# Altium schematic symbol library res_smd_passive.SchLib: 12 symbols
Pins are listed as number, name and electrical type; pins without a type are passive.

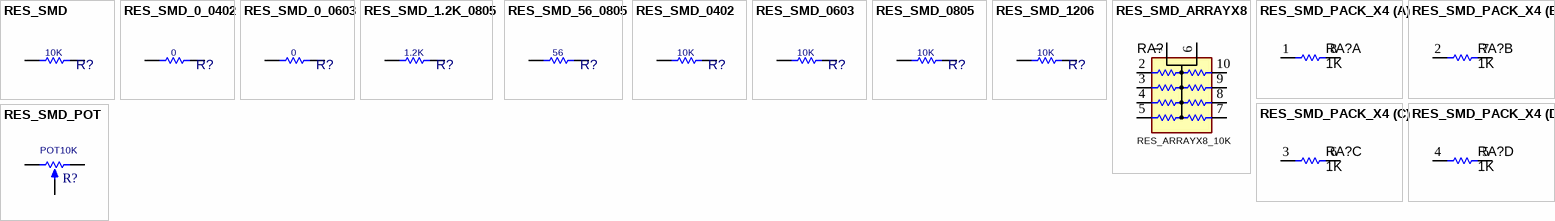
[diagram p0: symbols RES_SMD to RES_SMD_POT]

## RES_SMD
designator R?, comment 10K
RESISTOR, SMD; PARAM: 0.063W; DESC: DESCRIPTION; DIST#: MOUSER; PARAM2: 1%; MANF_P#: -; MANF: -; ASSEMBLY: ASSEMBLY; PRICE: 100= 0.5$; VALUE: 10K
footprint R0402 (CHIP Resistor 1/16 WATT, 1.0X0.5mm, 0402, 1005)
footprint R0603 (CHIP Resistor 1/10 WATT, 1.6x0.8mm, 0603, 1608)
footprint R0805 (CHIP RESISTOR 1/8 WATT ,2.0X1.3mm, 0805, 2012)
footprint R1206 (CHIP RESISTOR 1/4 WATT, Body 3.2x1.6mm,1206, 3216)
footprint R2512 (CHIP RESISTOR 1 WATT, 6.4X3.2mm, 2512, 6432)
footprint R2010 (CHIP RESISTOR 3/4 WATT, 5.1x3mm, 2010, 5025)
footprint R1210 (CHIP RESISTOR 1/2 WATT, Body 3.2x2.5mm,1210, 3225)
pins: 1, 2

## RES_SMD_0_0402
designator R?, comment 0
RESISTOR, SMD; MANF_P#: RK73Z1ETTP; MANF: KOA SPEER; PARAM: 0.063W; DESC: DESCRIPTION; DIST#: MOUSER; PARAM2: 1%; ASSEMBLY: ASSEMBLY; PRICE: 100= 0.8$; VALUE: 0
footprint R0402 (CHIP Resistor 1/16 WATT, 1.0X0.5mm, 0402, 1005)
pins: 1, 2

## RES_SMD_0_0603
designator R?, comment 0
RESISTOR, SMD; MANF_P#: RC0603JR-070RL; MANF: Yageo; PARAM: 0.1W; DESC: DESCRIPTION; DIST#: MOUSER; PARAM2: 1%; ASSEMBLY: ASSEMBLY; PRICE: 100= 0.2$; VALUE: 0
footprint R0603 (CHIP Resistor 1/10 WATT, 1.6x0.8mm, 0603, 1608)
pins: 1, 2

## RES_SMD_1.2K_0805
designator R?, comment 1.2K
RESISTOR, SMD; MANF_P#: ESR10EZPJ122; MANF: ROHM; PARAM: 0.4W; DESC: DESCRIPTION; DIST#: MOUSER; PARAM2: 1%; ASSEMBLY: ASSEMBLY; PRICE: 0.1$; VALUE: 1.2K
footprint R0805 (CHIP RESISTOR 1/8 WATT ,2.0X1.3mm, 0805, 2012)
pins: 1, 2

## RES_SMD_56_0805
designator R?, comment 56
RESISTOR, SMD; MANF_P#: ESR10EZPF56R0; MANF: ROHM; PARAM: 0.4W; DESC: DESCRIPTION; DIST#: MOUSER; PARAM2: 1%; ASSEMBLY: ASSEMBLY; PRICE: 0.02$; VALUE: 56
footprint R0805 (CHIP RESISTOR 1/8 WATT ,2.0X1.3mm, 0805, 2012)
pins: 1, 2

## RES_SMD_0402
designator R?, comment 10K
RESISTOR, SMD; PARAM: 0.063W; DESC: DESCRIPTION; DIST#: MOUSER; PARAM2: 1%; MANF_P#: -; MANF: -; ASSEMBLY: ASSEMBLY; PRICE: 100= 0.5$; VALUE: 10K
footprint R0402 (CHIP Resistor 1/16 WATT, 1.0X0.5mm, 0402, 1005)
pins: 1, 2

## RES_SMD_0603
designator R?, comment 10K
RESISTOR, SMD; PARAM: 0.1W; DESC: DESCRIPTION; DIST#: MOUSER; PARAM2: 1%; MANF_P#: -; MANF: -; ASSEMBLY: ASSEMBLY; PRICE: 100= 0.5$; VALUE: 10K
footprint R0603 (CHIP Resistor 1/10 WATT, 1.6x0.8mm, 0603, 1608)
pins: 1, 2

## RES_SMD_0805
designator R?, comment 10K
RESISTOR, SMD; PARAM: 0.125W; DESC: DESCRIPTION; DIST#: MOUSER; PARAM2: 1%; MANF_P#: -; MANF: -; ASSEMBLY: ASSEMBLY; PRICE: 100= 0.5$; VALUE: 10K
footprint R0805 (CHIP RESISTOR 1/8 WATT ,2.0X1.3mm, 0805, 2012)
pins: 1, 2

## RES_SMD_1206
designator R?, comment 10K
RESISTOR, SMD; PARAM: 0.25W; DESC: DESCRIPTION; DIST#: MOUSER; PARAM2: 1%; MANF_P#: -; MANF: -; ASSEMBLY: ASSEMBLY; PRICE: 100= 0.5$; VALUE: 10K
footprint R1206 (CHIP RESISTOR 1/4 WATT, Body 3.2x1.6mm,1206, 3216)
pins: 1, 2

## RES_SMD_ARRAYX8
designator RA?, comment RES_ARRAYX8_10K
RESISTOR, SMD, ARRAYX8,; PARAM: 5%; MANF: Panasonic - ECG; MANF_P#: EXB-E10C103J; Value: RES_ARRAYX8_10K
footprint RARRX8_4021 (Resistor ARRAY X8, SMD, 4.0x2.1mm)
pins: 1 COM, 2, 3, 4, 5, 6 COM, 7, 8, 9, 10

## RES_SMD_PACK_X4
designator RA?, comment value 1K  (hidden comment: Film Res Pack)
RESISTOR, SMD, PACKX4; MANF_P#: MANF_PART#; MANF: MANF
footprint RP0603X4 (RPACK, 0603X4, 160X80X4 1206)
footprint RP0402X4 (RPACK, 0804, 0402X4, 100X50X4, 2.00x1.00mm)
part A pins: 1, 8
part B pins: 2, 7
part C pins: 3, 6
part D pins: 4, 5

## RES_SMD_POT
designator R?, comment POT10K
RESISTOR, SMD, Potentiometer; VALUE: POT10K
footprint POTS_3MM (POT SMD, 3.0X3.0mm, Trimming PVG3A PVZ3A)
footprint POTS_3214W (POT SMD, 4.0X5.0mm, Trimming SM-42/43W 3214W)
footprint POTS_3314G (POT SMD, 5.0X5.0mm, Trimming, 3314G)
footprint POTS_5MM (POT SMD, 5.0X5.0mm, Trimming PVG5H)
pins: 1 TOP, 2 TAP, 3 BOT